# Altium footprint library mylib.PcbLib: 1 footprints
Each footprint in its own frame and in the unit in brackets; x right, y up, seen from the top. Pads: shape width x height; smd on the part's side, far side on the other; paste and mask are expansions set on the pad; w line width, h text height; cw(c..) or ccw(c..) is an arc to the next point about the centre after c.
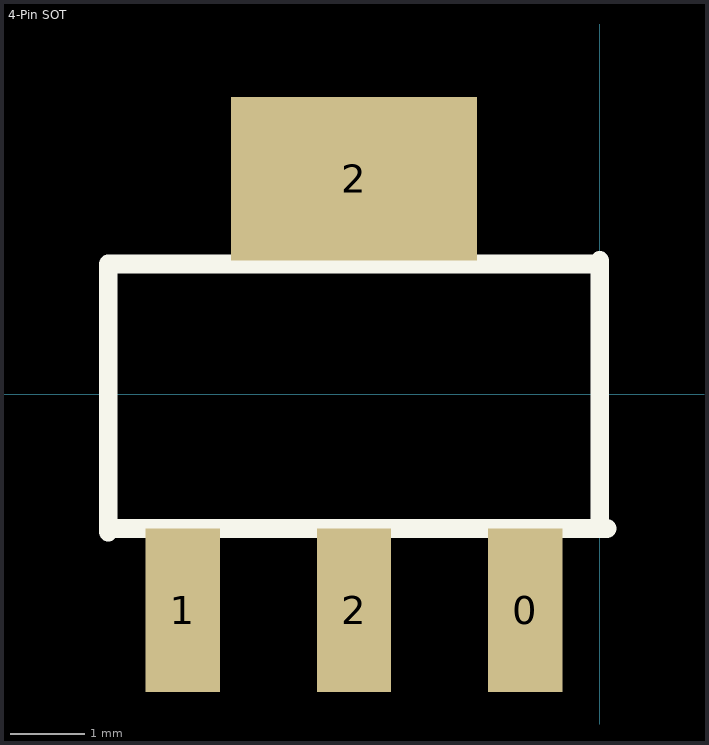
[diagram p0: the footprint, top view; thin cyan lines are the x and y axes]

## 4-Pin SOT [mm]
height 1.7
pads (4):
  rect 1x2.2 smd: 0(-1.002,-2.9) 1(-5.602,-2.9) 2(-3.302,-2.9)
  rect 3.3x2.2 smd: 2(-3.302,2.9)
Top Overlay:
  lines w0.254: -6.604,-1.85 -6.604,1.754 0,1.754 ; -6.604,-1.802 0.096,-1.802 ; 0,-1.802 0,1.802